# EAGLE library part TPS55340_RTE_16 (library LED Controller)
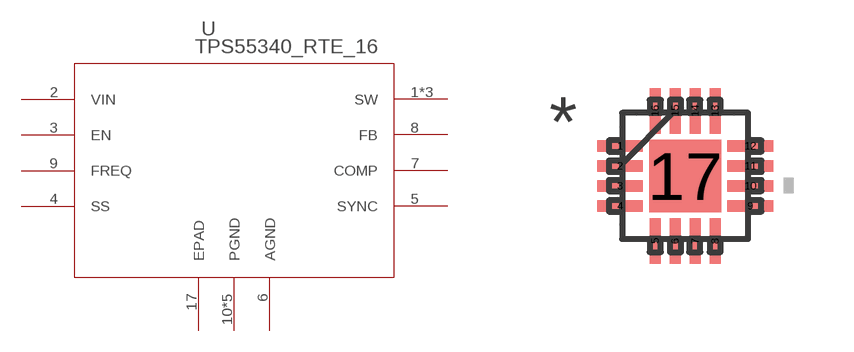
[diagram p0: symbol with the pads of RTE16; footprint RTE16]

Designator prefix U

## TPS55340_RTE_16 (MANUFACTURER_PART_NUMBER: tps55340_rte_16; VENDOR: TEXAS INSTRUMENTS)  [RTE16]
1  SW  pas
2  VIN  in
3  EN  pas
4  SS  pas
5  SYNC  pas
6  AGND  pwr
7  COMP  pas
8  FB  pas
9  FREQ  pas
10  PGND  pwr
11  PGND  pwr
12  PGND  pwr
13  PGND  pwr
14  PGND  pwr
15  SW  pas
16  SW  pas
17  EPAD  pas

## Footprint RTE16 (pad centres in mm)
smd 1.143 x 0.279: 1 -1.627,0.75; 2 -1.627,0.25; 3 -1.627,-0.25; 4 -1.627,-0.75; 9 1.627,-0.75; 10 1.627,-0.25; 11 1.627,0.25; 12 1.627,0.75
smd 0.279 x 1.143: 5 -0.75,-1.627; 6 -0.25,-1.627; 7 0.25,-1.627; 8 0.75,-1.627; 13 0.75,1.627; 14 0.25,1.627; 15 -0.25,1.627; 16 -0.75,1.627
smd 1.803 x 1.803: 17 0,0